# EAGLE library part SN74HC164 (library bschulz)
SN74HC164 - 8 bit SIPO Shift Register Characteristics: VCC: 2~6V Operating Temperature: -40°C to 125°C fmax = 6 MHz (for Vcc = 2v, high for higher Vcc) Digikey: 296-14020-1-ND (TSSOP) <https://www.digikey.com/product-detail/en/texas-instruments/SN74HC164PWR/296-14020-1-ND/522545> 296-14838-1-ND (SOIC) <https://www.digikey.com/product-detail/en/texas-instruments/SN74HC164DR/296-14838-1-ND/562706> 296-8248-5-ND (DIP) <https://www.digikey.com/products/en/integrated-circuits-ics/logic-shift-registers/712?k=sn74hc164&k=&pkeyword=sn74hc164&pv69=80&FV=ffe002c8&quantity=0&ColumnSort=0&page=1&stock=1&pageSize=25>
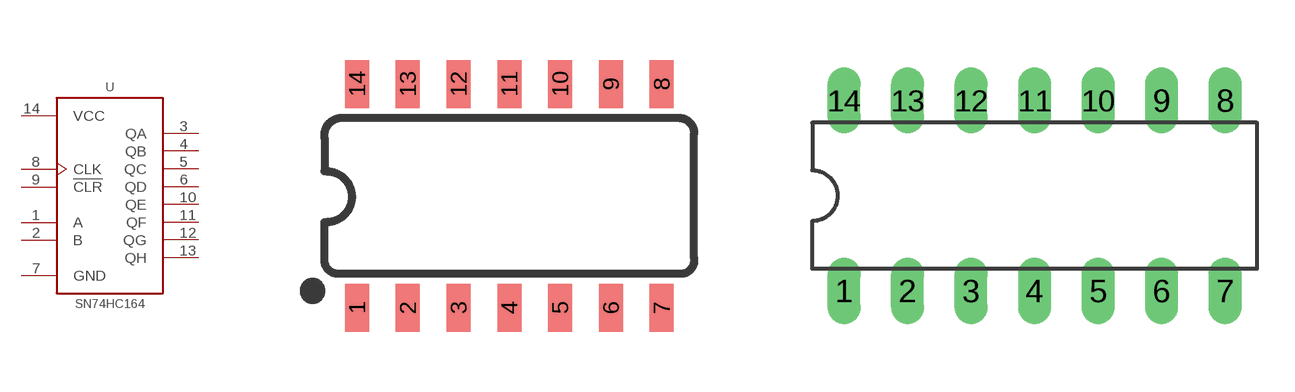
[diagram p48: symbol with the pads of SO14; footprints SO14, DIL14]

Designator prefix U

## SN74HC164D (DIGIKEY: 296-14838-1-ND; MF: TI; MPN: SN74HC164DR)  [SO14]
1  A  in
2  B  in
3  QA  out
4  QB  out
5  QC  out
6  QD  out
7  GND  pwr
8  CLK  in
9  !CLR  in
10  QE  out
11  QF  out
12  QG  out
13  QH  out
14  VCC  pwr

## SN74HC164N (DIGIKEY: 296-8248-5-ND; MF: TI; MPN: SN74HC164N)  [DIL14]
Pads as for SO14

## SN74HC164PW (DIGIKEY: 296-14020-1-ND; MF: TI; MPN: SN74HC164PWR)  [SSOP14]
Pads as for SO14

## Footprint SO14 (pad centres in mm)
SOIC, 0.15 inch width
smd 0.6 x 1.2: 1 -3.175,-2.8; 2 -1.905,-2.8; 3 -0.635,-2.8; 4 0.635,-2.8; 5 1.905,-2.8; 6 3.175,-2.8; 7 4.445,-2.8; 8 4.445,2.8; 9 3.175,2.8; 10 1.905,2.8; 11 0.635,2.8; 12 -0.635,2.8; 13 -1.905,2.8; 14 -3.175,2.8

## Footprint DIL14 (pad centres in mm)
Dual In Line Package
drill 0.813 long: 1 -7.62,-3.81; 2 -5.08,-3.81; 3 -2.54,-3.81; 4 0,-3.81; 5 2.54,-3.81; 6 5.08,-3.81; 7 7.62,-3.81; 8 7.62,3.81; 9 5.08,3.81; 10 2.54,3.81; 11 0,3.81; 12 -2.54,3.81; 13 -5.08,3.81; 14 -7.62,3.81

## Footprint SSOP14 (pad centres in mm)
Small Shrink Outline Package
smd 0.4 x 1.2: 1 -1.95,-2.925; 2 -1.3,-2.925; 3 -0.65,-2.925; 4 0,-2.925; 5 0.65,-2.925; 6 1.3,-2.925; 7 1.95,-2.925; 8 1.95,2.925; 9 1.3,2.925; 10 0.65,2.925; 11 0,2.925; 12 -0.65,2.925; 13 -1.3,2.925; 14 -1.95,2.925